# Altium schematic symbol library fitipower.SchLib: 19 symbols
Pins are listed as number, name and electrical type; pins without a type are passive.

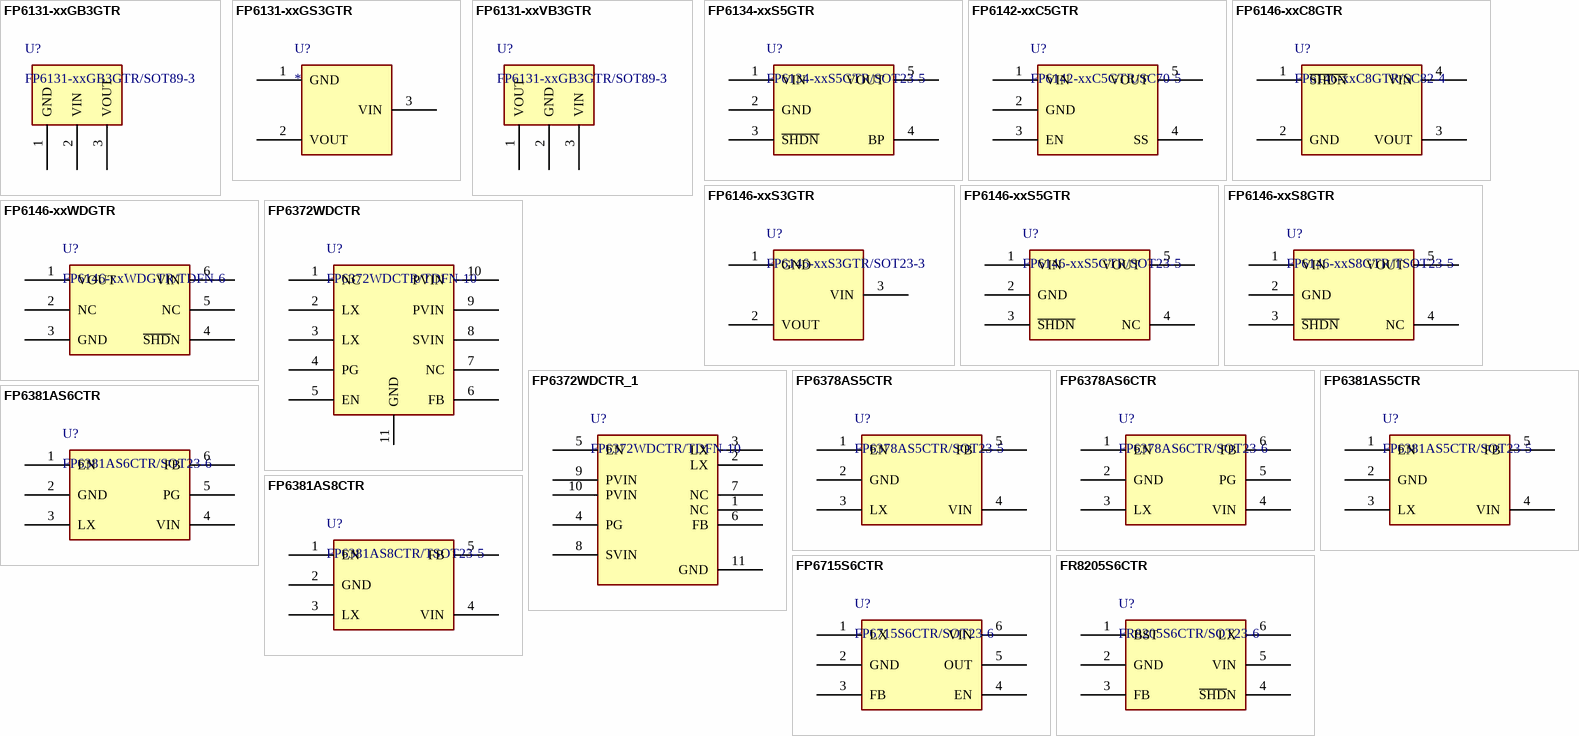
[diagram p0: symbols FP6131-xxGB3GTR to FR8205S6CTR]

## FP6131-xxGB3GTR
designator U?, comment FP6131-xxGB3GTR/SOT89-3
Fitipower 600mA Low Dropout Linear Regulator;
footprint SOT89-3 (SOT89-3; SOT-89-3; 3 Leads; Body 4.6 x 5.8 mm, inc. leads (LxW max))
pins: 1 GND (power), 2 VIN (power), 3 VOUT (power)

## FP6131-xxGS3GTR
designator U?
Fitipower 600mA Low Dropout Linear Regulator;
footprint SOT23-3 (SOT-23-3; SOT23-3; SOT-23; 3 Leads; Body 3.0 x 2.8 mm, inc. leads (LxW max))
pins: 1 GND (power), 2 VOUT (power), 3 VIN (power)

## FP6131-xxVB3GTR
designator U?, comment FP6131-xxGB3GTR/SOT89-3
Fitipower 600mA Low Dropout Linear Regulator;
footprint sot89-3 (SOT89-3; SOT-89-3; 3 Leads; Body 4.6 x 5.8 mm, inc. leads (LxW max))
pins: 1 VOUT (power), 2 GND (power), 3 VIN (power)

## FP6134-xxS5GTR
designator U?, comment FP6134-xxS5GTR/SOT23-5
Fitipower 600mA Low Dropout Linear Regulator with Shutdown;
footprint SOT23-5 (SOT23-5; SOT-23-5; 5 Leads; Body 3.0 x 2.8 mm, inc. leads (LxW max))
pins: 1 VIN (power), 2 GND (power), 3 ~{SHDN}, 4 BP, 5 VOUT (power)

## FP6142-xxC5GTR
designator U?, comment FP6142-xxC5GTR/SC70-5
Fitipower 500mA Low Noise LDO with  Soft-Start and Output Discharge Function;
footprint sc70-5
pins: 1 VIN (power), 2 GND (power), 3 EN, 4 SS, 5 VOUT (power)

## FP6146-xxC8GTR
designator U?, comment FP6146-xxC8GTR/SC82-4
Fitipower 300mA Low Noise High PSRR  LDO with Shutdown;
footprint SC82-4 (Footprint not found)
pins: 1 ~{SHDN}, 2 GND (power), 3 VOUT (power), 4 VIN (power)

## FP6146-xxS3GTR
designator U?, comment FP6146-xxS3GTR/SOT23-3
Fitipower 300mA Low Noise High PSRR  LDO with Shutdown;
footprint SOT23-3 (SOT-23-3; SOT23-3; SOT-23; 3 Leads; Body 3.0 x 2.8 mm, inc. leads (LxW max))
pins: 1 GND (power), 2 VOUT (power), 3 VIN (power)

## FP6146-xxS5GTR
designator U?, comment FP6146-xxS5GTR/SOT23-5
Fitipower 300mA Low Noise High PSRR  LDO with Shutdown;
footprint SOT23-5 (SOT23-5; SOT-23-5; 5 Leads; Body 3.0 x 2.8 mm, inc. leads (LxW max))
pins: 1 VIN (power), 2 GND (power), 3 ~{SHDN}, 4 NC, 5 VOUT (power)

## FP6146-xxS8GTR
designator U?, comment FP6146-xxS8GTR/TSOT23-5
Fitipower 300mA Low Noise High PSRR  LDO with Shutdown;
footprint TSOT23-5
pins: 1 VIN (power), 2 GND (power), 3 ~{SHDN}, 4 NC, 5 VOUT (power)

## FP6146-xxWDGTR
designator U?, comment FP6146-xxWDGTR/TDFN-6
Fitipower 300mA Low Noise High PSRR  LDO with Shutdown;
footprint TDFN-6 (1.6mmx1.6mm)
pins: 1 VOUT (power), 2 NC, 3 GND (power), 4 ~{SHD}N, 5 NC, 6 VIN (power)

## FP6372WDCTR
designator U?, comment FP6372WDCTR/TDFN-10
Fitipower High Efficiency 1MHz 3.5A  Synchronous Step Down Regulator
pins: 1 NC, 2 LX (power), 3 LX (power), 4 PG, 5 EN, 6 FB, 7 NC, 8 SVIN, 9 PVIN (power), 10 PVIN (power), 11 GND

## FP6372WDCTR_1
designator U?, comment FP6372WDCTR/TDFN-10
Fitipower High Efficiency 1MHz 3.5A  Synchronous Step Down Regulator
pins: 1 NC, 2 LX (power), 3 LX (power), 4 PG, 5 EN, 6 FB, 7 NC, 8 SVIN, 9 PVIN (power), 10 PVIN (power), 11 GND

## FP6378AS5CTR
designator U?, comment FP6378AS5CTR/SOT23-5
Fitipower High Efficiency 1MHz 2A  Synchronous Step Down Regulator
pins: 1 EN, 2 GND (power), 3 LX (power), 4 VIN (power), 5 FB

## FP6378AS6CTR
designator U?, comment FP6378AS6CTR/SOT23-6
Fitipower High Efficiency 1MHz 2A  Synchronous Step Down Regulator
pins: 1 EN, 2 GND (power), 3 LX (power), 4 VIN (power), 5 PG, 6 FB

## FP6381AS5CTR
designator U?, comment FP6381AS5CTR/SOT23-5
Fitipower High Efficiency 1.5MHz 1.2A  Synchronous Step Down Converter;
pins: 1 EN, 2 GND (power), 3 LX (power), 4 VIN (power), 5 FB

## FP6381AS6CTR
designator U?, comment FP6381AS6CTR/SOT23-6
Fitipower High Efficiency 1.5MHz 1.2A  Synchronous Step Down Converter;
pins: 1 EN, 2 GND (power), 3 LX (power), 4 VIN (power), 5 PG, 6 FB

## FP6381AS8CTR
designator U?, comment FP6381AS8CTR/TSOT23-5
Fitipower High Efficiency 1.5MHz 1.2A  Synchronous Step Down Converter;
pins: 1 EN, 2 GND (power), 3 LX (power), 4 VIN (power), 5 FB

## FP6715S6CTR
designator U?, comment FP6715S6CTR/SOT23-6
Fitipower 5V, 2.5A, 550KHz High Efficiency Low Ripple  Synchronous Step-Up Converter;
pins: 1 LX (power), 2 GND (power), 3 FB, 4 EN, 5 OUT (power), 6 VIN (power)

## FR8205S6CTR
designator U?, comment FR8205S6CTR/SOT23-6
Fitipower 18V, 3A, 500KHz Synchronous Step-Down  DC/DC Converter;
pins: 1 BST, 2 GND (power), 3 FB, 4 ~{SHD}N, 5 VIN (power), 6 LX (power)